# Altium footprint library Q's常用电子元件.PcbLib: 69 footprints (part 1 of 5)
Each footprint in its own frame and in the unit in brackets; x right, y up, seen from the top. Pads: shape width x height; smd on the part's side, far side on the other; paste and mask are expansions set on the pad; w line width, h text height; cw(c..) or ccw(c..) is an arc to the next point about the centre after c.
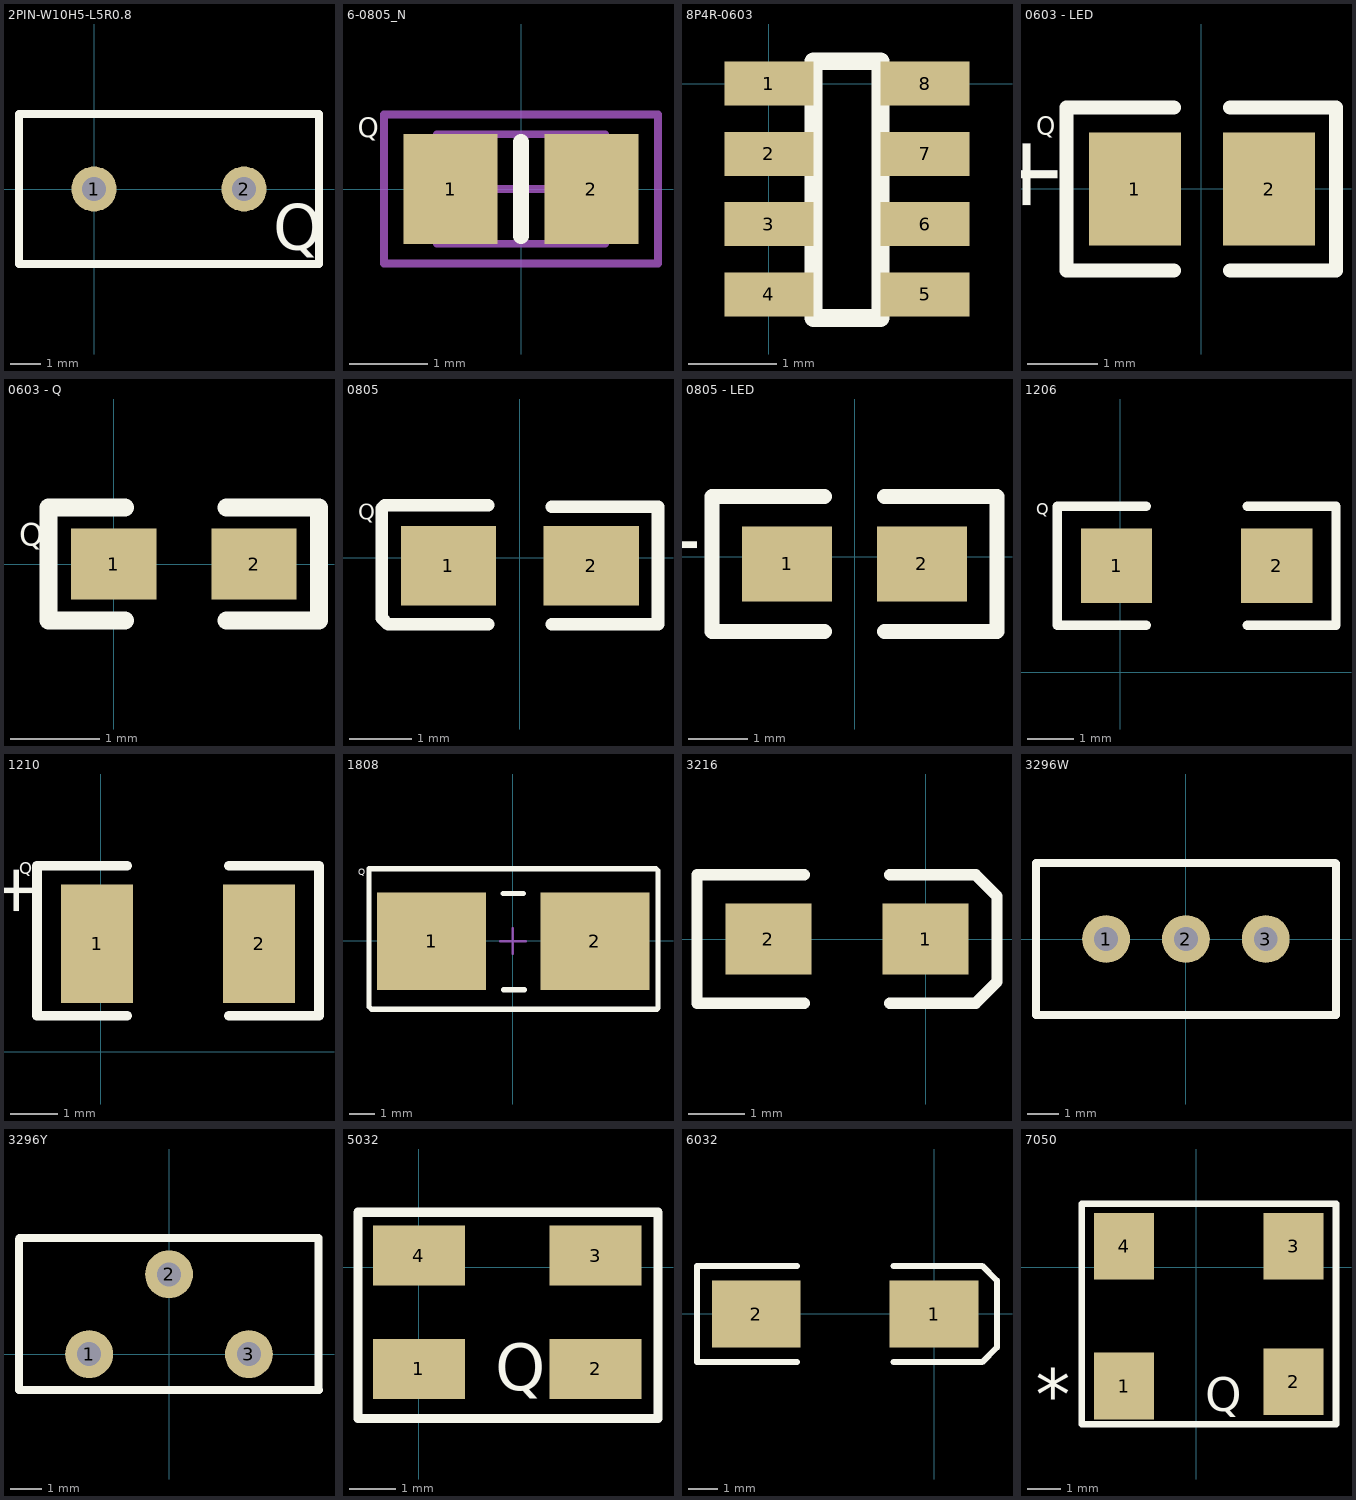
[diagram p0: the footprints below, top view; thin cyan lines are the x and y axes]

## 2PIN-W10H5-L5R0.8 [mm] "2pins, Body宽10mm，高5mm，焊盘间距5mm，hole0.8mm"
pads (2):
  round 1.5 hole 0.8: 1(0,0) 2(5,0)
Top Overlay:
  lines w0.254: -2.5,-2.5 0,-2.5 7.5,-2.5 7.5,2.5 -2.5,2.5 -2.5,-2.5
  text "Q" at 5.969,-2.032 h1.52

## 6-0805_N [mm] "Chip Resistor, Body 2.0x1.37mm, IPC Medium Density"
height 0.7
pads (2):
  rect 1.2x1.4 smd: 1(-0.9,0) 2(0.9,0)
Top Overlay:
  lines w0.203: 0,-0.6 0,0.6
  text "Q" at -2.083,0.66 h0.25
Mechanical 13:
  lines w0.1: -1.075,-0.7 1.075,-0.7 1.075,0.7 -1.075,0.7 -1.075,-0.7
Mechanical 15:
  lines w0.1: -0.5,0 0.5,0 ; 0,-0.5 0,0.5 ; -1.75,-0.95 1.75,-0.95 1.75,0.95 -1.75,0.95 -1.75,-0.95
3D body: height 0.7, standoff 0, extent -1.075,-0.7 1.075,0.7
3D body: height 0.6, standoff 0, extent -2.114,0.637 -1.892,0.943

## 8P4R-0603 [mm]
pads (8):
  rect 1.016x0.5 smd: 1(0,0) 2(0,-0.8) 3(0,-1.6) 4(0,-2.4) 5(1.778,-2.4) 6(1.778,-1.6) 7(1.778,-0.8) 8(1.778,0)
Top Overlay:
  lines w0.203: 0.508,-2.667 1.27,-2.667 1.27,0.254 0.508,0.254 0.508,-2.667
3D body: height 0.6, standoff 0.4, extent 0.051,-2.819 1.701,0.381

## 0603 - LED [mm]
pads (2):
  rect 1.3x1.6 smd: 1(-0.94,-0.003) 2(0.96,-0.003)
Top Overlay:
  lines w0.2: -0.39,-1.153 -1.905,-1.153 -1.905,1.147 -0.39,1.147 ; 0.41,-1.153 1.905,-1.153 1.905,1.147 0.41,1.147
  text "Q" at -2.337,0.762 h0.25
  text "+" at -2.032,-0.381 h1.02
3D body: height 0.8, standoff 0, extent -0.5,-0.505 0.516,0.511
3D body: height 0.64, standoff 0, extent -1.516,-0.632 1.532,0.638
3D body: height 0.6, standoff 0, extent -2.356,0.751 -2.134,1.057

## 0603 - Q [mm]
pads (2):
  rect 0.96x0.8 smd: 1(0,0) 2(1.58,0)
Top Overlay:
  lines w0.203: 0.127,-0.635 -0.737,-0.635 -0.737,0.635 0.127,0.635 ; 1.27,-0.635 2.311,-0.635 2.311,0.635 1.27,0.635
  text "Q" at -1.067,0.203 h0.25
3D body: height 0.5, standoff 0.2, extent -0.013,-0.406 1.587,0.394
3D body: height 0.6, standoff 0, extent -1.098,0.18 -0.876,0.486

## 0805 [mil] "0805封装"
pads (2):
  rect 60x50 smd: 1(-45,-5) 2(45,-5)
Top Overlay:
  lines w8: -20,-42 -83,-42 -87,-38 -87,31 -85,33 -20,33 ; 20,-42 87,-42 87,32 20,32
  text "Q" at -102,24 h10
3D body: height 23.62, standoff 0, extent -103.12,22.58 -94.38,34.62

## 0805 - LED [mil] "0805封装，有正负号标记。"
pads (2):
  rect 60x50 smd: 1(-45,-5) 2(45,-5)
Top Overlay:
  lines w10: -20,-50 -95,-50 -95,40 -20,40 ; 20,-50 95,-50 95,40 20,40
  text "+" at -105,-15 h40

## 1206 [mil] "钽电容封装，Body3.2mm*1.6mm, 2.2uF,10uF,22uF"
pads (2):
  rect 60x62.99 smd: 1(-3,90) 2(132,90)
Top Overlay:
  lines w8: 22,40 -53,40 -53,140 22,140 ; 107,40 182,40 182,140 107,140
  text "Q" at -71,133 h10
3D body: height 23.62, standoff 0, extent -71.12,130.98 -62.38,143.02
3D body: height 39.37, standoff 7.87, extent 2,58.5 127.98,121.5

## 1210 [mil] "钽电容封装，Body3.2mm*2.5mm, 100uF"
pads (2):
  rect 60x98.43 smd: 1(-3,90) 2(132,90)
Top Overlay:
  lines w8: 22,30 -53,30 -53,155 22,155 ; 107,30 182,30 182,155 107,155
  text "Q" at -68,148 h10
  text "+" at -53,111.3 h40
3D body: height 23.62, standoff 0, extent -67.32,145.48 -58.58,157.52
3D body: height 39.37, standoff 7.87, extent -0.99,40.57 124.99,139

## 1808 [mm] "保险丝座1808, Body 9.73x5.03mm, IPC Medium Density"
height 1.5
pads (2):
  rect 4.24x3.81 smd: 1(-3.175,-0.005) 2(3.205,-0.005)
Top Overlay:
  lines w0.203: -0.381,1.854 0.419,1.854 ; -0.356,-1.905 0.444,-1.905 ; -5.613,-2.565 -5.613,2.819 5.588,2.819 5.664,2.743 5.664,-2.616 5.613,-2.667 -3.429,-2.667 -5.512,-2.667 -5.613,-2.565
  text "Q" at -6.045,2.565 h0.25
Mechanical 15:
  lines w0.1: -0.5,-0.005 0.5,-0.005 ; 0,-0.505 0,0.495
3D body: height 4, standoff 0.4, extent -5,-2.515 5,2.635
3D body: height 0.6, standoff 0, extent -6.079,2.542 -5.857,2.848

## 3216 [mil]
pads (2):
  rect 60x50 smd: 1(0,0) 2(-110,0)
Top Overlay:
  lines w8: -85,-45 -160,-45 -160,45 -85,45 ; -25,-45 35,-45 50,-30 50,30 35,45 -25,45

## 3296W [mil]
pads (3):
  round 60 hole 30: 1(-100,0) 2(0,0) 3(100,0)
Top Overlay:
  lines w10: -4.72,-95.28 95.28,-95.28 ; -187.8,-95.28 -187.8,-93.35 -187.8,95.28 -187.07,95.28 187.07,95.28 188,94.35 188,-95 187.72,-95.28 -187.8,-95.28

## 3296Y [mil]
pads (3):
  round 60 hole 30: 1(-100,0) 2(0,100) 3(100,0)
Top Overlay:
  lines w10: -187.07,144.55 -187.8,143.83 -187.8,-44.72 187.72,-44.72 187.07,-44.07 ; -187.07,145.28 187.07,145.28 ; 187.07,-44.72 187.07,144.62

## 5032 [mm]
pads (4):
  rect 2x1.3 smd: 1(0,-2.2) 2(3.827,-2.2) 3(3.827,0.254) 4(0,0.254)
Top Overlay:
  lines w0.203: -1.321,-3.277 5.182,-3.277 5.182,1.194 -1.321,1.194 -1.321,-3.277
  text "." at -1.854,-2.87 h1.52
  text "Q" at 1.652,-2.668 h1.02
3D body: height 0.4, standoff 0.03, extent -0.508,-2.616 4.547,0.66
3D body: height 2.6, standoff 0, extent 1.524,-2.782 2.414,-1.537

## 6032 [mil]
pads (2):
  rect 120x90 smd: 1(0,0) 2(-240,0)
Top Overlay:
  lines w8: -185,-65 -320,-65 -320,65 -185,65 ; -55,-65 65,-65 85,-45 85,45 65,65 -55,65

## 7050 [mm]
pads (4):
  rect 1.8x2 smd: 1(-2.159,-3.556) 2(2.921,-3.429) 3(2.921,0.635) 4(-2.159,0.635)
Top Overlay:
  lines w0.203: -3.429,-4.699 4.191,-4.699 4.191,1.905 -3.429,1.905 -3.429,-4.699
  text "*" at -4.801,-4.547 h1.52
  text "Q" at 0.266,-4.319 h1.02
3D body: height 2.6, standoff 0, extent 0.151,-4.433 1.041,-3.187
3D body: height 2, standoff 0, extent -3.118,-3.856 3.88,1.143